# EAGLE library part LM5017 (library dc-dc)
Buck Switching Regulator IC Positive Adjustable 1.225V 1 Output 600mA 8-PowerSOIC (0.154", 3.90mm Width)
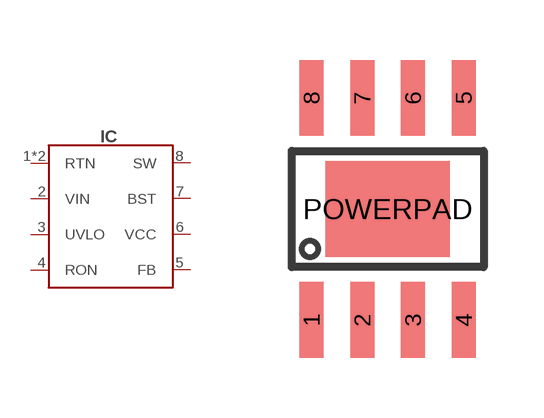
[diagram p18: symbol with the pads of SOIC8-POWERPAD; footprint SOIC8-POWERPAD]

Designator prefix IC

## LM5017 (DIGIKEY#: 296-37695-1-ND; DIGIREEL#: 296-37695-6-ND; LCSC#: C34355; MANF: Texas Instruments; MANF#: LM5017MRE/NOPB)  [SOIC8-POWERPAD]
1  RTN
2  VIN
3  UVLO
4  RON
5  FB
6  VCC
7  BST
8  SW
POWERPAD  RTN

## Footprint SOIC8-POWERPAD (pad centres in mm)
https://datasheet.lcsc.com/szlcsc/1811060506_Texas-Instruments-LM5017MRX-NOPB_C34355.pdf
smd 0.6 x 1.9: 1 -1.905,-2.78; 2 -0.635,-2.78; 3 0.635,-2.78; 4 1.905,-2.78; 5 1.905,2.78; 6 0.635,2.78; 7 -0.635,2.78; 8 -1.905,2.78
smd 3.1 x 2.4: POWERPAD 0,0